# Altium footprint library BMP180.PcbLib: 1 footprints
Each footprint in its own frame and in the unit in brackets; x right, y up, seen from the top. Pads: shape width x height; smd on the part's side, far side on the other; paste and mask are expansions set on the pad; w line width, h text height; cw(c..) or ccw(c..) is an arc to the next point about the centre after c.
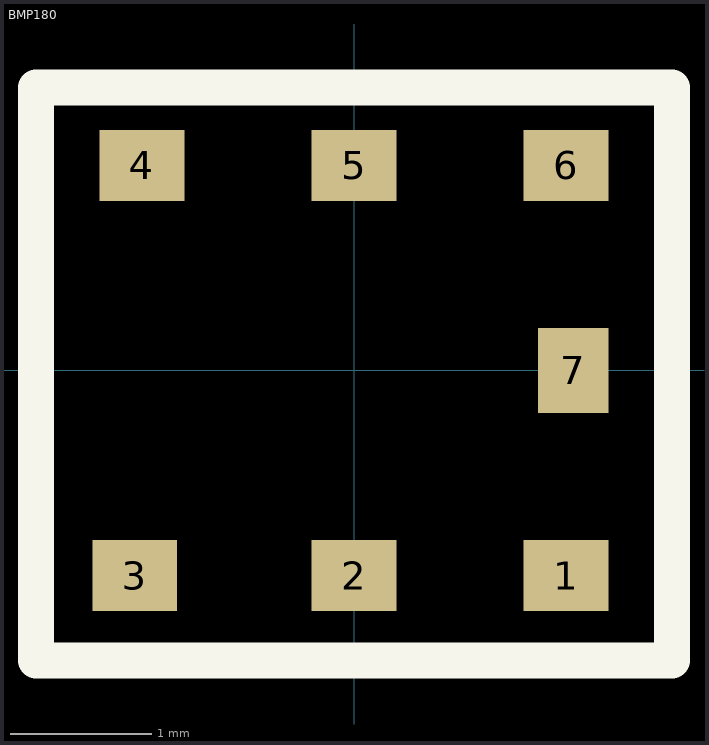
[diagram p0: the footprint, top view; thin cyan lines are the x and y axes]

## BMP180 [mm]
pads (7):
  rect 0.6x0.5 smd: 1(1.5,-1.45) 2(0,-1.45) 3(-1.55,-1.45) 4(-1.5,1.45) 5(0,1.45) 6(1.5,1.45)
  rect 0.5x0.6 smd: 7(1.55,0)
Top Layer:
Top Overlay:
  lines w0.254: -2.25,-2.05 -2.25,2 2.25,2 2.25,-2.05 -2.25,-2.05